# EAGLE library part G2RL-2 (library relay_omron)
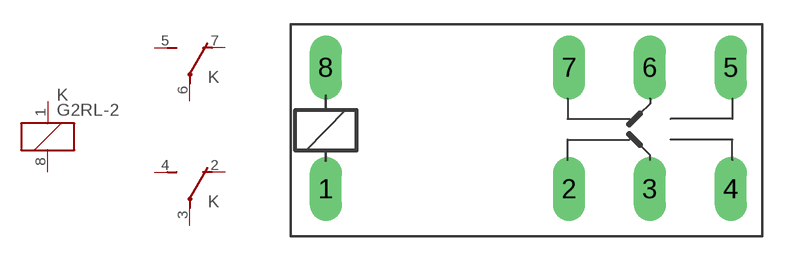
[diagram p0: symbol with the pads of G2RL-2; footprint G2RL-2]

Designator prefix K; gates G$1=K G$2=U G$3=U

## G2RL-212V  [G2RL-2]
1  G$1:1  pas
2  G$2:O  pas
3  G$2:P  pas
4  G$2:S  pas
5  G$3:S  pas
6  G$3:P  pas
7  G$3:O  pas
8  G$1:2  pas

## Footprint G2RL-2 (pad centres in mm)
drill 1.321 long: 1 -11.43,-3.683; 2 3.581,-3.683; 3 8.56,-3.683; 4 13.564,-3.683; 5 13.564,3.81; 6 8.56,3.81; 7 3.581,3.81; 8 -11.43,3.81